# EAGLE library part DRV8833_MODULE (library PA(EN)_Components_Library)
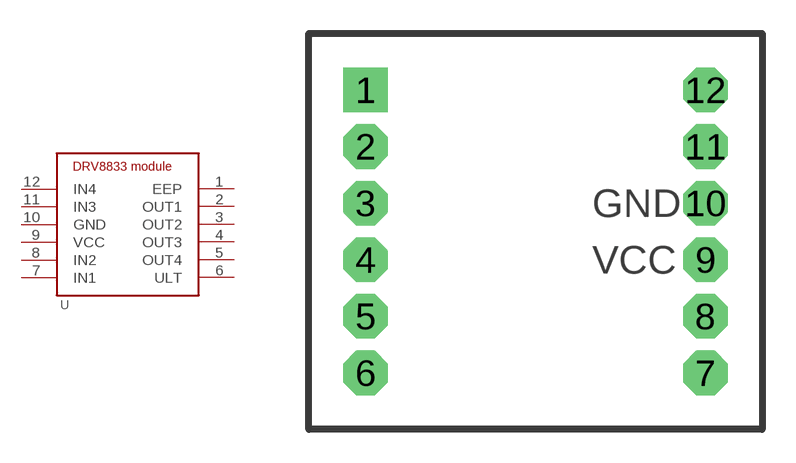
[diagram p29: symbol with the pads of DRV8833_MODULE; footprint DRV8833_MODULE]

Designator prefix U

## DRV8833_MODULE  [DRV8833_MODULE]
1  EEP
2  OUT1
3  OUT2
4  OUT3
5  OUT4
6  ULT
7  IN1
8  IN2
9  VCC
10  GND
11  IN3
12  IN4

## Footprint DRV8833_MODULE (pad centres in mm)
drill 1 pad 2 square: 1 0,0
drill 1 pad 2 octagon: 2 0,-2.54; 3 0,-5.08; 4 0,-7.62; 5 0,-10.16; 6 0,-12.7; 7 15.24,-12.7; 8 15.24,-10.16; 9 15.24,-7.62; 10 15.24,-5.08; 11 15.24,-2.54; 12 15.24,0